# EAGLE library part TDA2822D (library misc)
Amplifier IC 1-Channel (Mono) or 2-Channel (Stereo) Class AB 8-SO
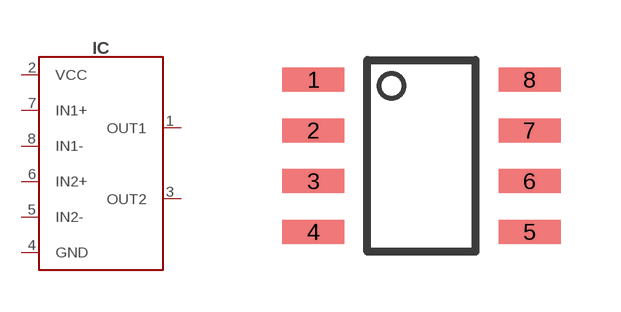
[diagram p28: symbol with the pads of SOIC8; footprint SOIC8]

Designator prefix IC

## TDA2822D (DIGIKEY#: 497-3376-2-ND; MANF: STMicroelectronics; MANF#: TDA2822D013TR)  [SOIC8]
1  OUT1
2  VCC
3  OUT2
4  GND
5  IN2-
6  IN2+
7  IN1+
8  IN1-

## Footprint SOIC8 (pad centres in mm)
https://www.ti.com/lit/ds/snvsaq5a/snvsaq5a.pdf?ts=1602424164509
smd 1.55 x 0.6: 1 -2.7,1.905; 2 -2.7,0.635; 3 -2.7,-0.635; 4 -2.7,-1.905; 5 2.7,-1.905; 6 2.7,-0.635; 7 2.7,0.635; 8 2.7,1.905